# EAGLE library part TPS82085 (library greg-IC)
TPS82085 3A Step-Down Converter The TPS82085 device is a 3-A step-down converter MicroSiP™ module optimized for small solution size and high efficiency. The power module integrates a synchronous step-down converter and an inductor to simplify design, reduce external components and save PCB area. The low profile and compact solution is suitable for automated assembly by standard surface mount equipment. To maximize efficiency, the converter operates in PWM mode with a nominal switching frequency of 2.4MHz and automatically enters Power Save Mode operation at light load currents. In Power Save Mode, the device operates with typically 17-µA quiescent current. Using the DCS-Control™ topology, the device achieves excellent load transient performance and accurate output voltage regulation. The EN and PG pins, which support sequencing configurations, bring a flexible system design. An integrated soft startup reduces the inrush current required from the input supply. Over temperature protection and Hiccup short circuit protection deliver a robust and reliable solution. 3-A, Low Profile MicroSiP™ Power Module DCS-Control™ Topology Up to 95% Efficiency 17-µA Operating Quiescent Current –40°C to 125°C Operating Temperature Range Hiccup Short Circuit Protection 2.5-V to 6-V Input Voltage Range 0.8-V to VIN Adjustable Output Voltage Power Save Mode for Light Load Efficiency 100% Duty Cycle for Lowest Dropout Output Discharge Function Power Good Output Integrated Soft Startup Over Temperature Protection 3.0-mm × 2.8-mm × 1.3-mm 8-Pin µSiL Package Datasheet <http://www.ti.com/lit/ds/symlink/tps82085.pdf>
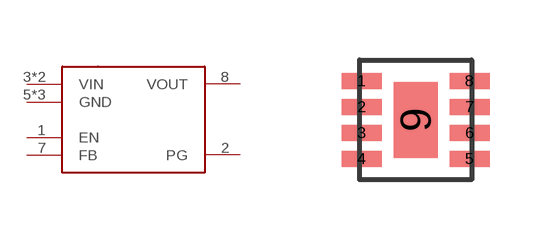
[diagram p8: symbol with the pads of MICROSIL-8; footprint MICROSIL-8]

Designator prefix -

## TPS82085  [MICROSIL-8]
1  EN  in
2  PG  out
3  VIN  pwr
4  VIN  pwr
5  GND  pwr
6  GND  pwr
7  FB  in
8  VOUT  pwr
9  GND  pwr

## Footprint MICROSIL-8 (pad centres in mm)
smd 1 x 0.4: 1 -1.35,0.975; 2 -1.35,0.325; 3 -1.35,-0.325; 4 -1.35,-0.975; 5 1.35,-0.975; 6 1.35,-0.325; 7 1.35,0.325; 8 1.35,0.975
smd 1.1 x 1.9: 9 0,0